# Altium footprint library Inductor_SMD.PcbLib: 259 footprints (part 10 of 17)
Each footprint in its own frame and in the unit in brackets; x right, y up, seen from the top. Pads: shape width x height; smd on the part's side, far side on the other; paste and mask are expansions set on the pad; w line width, h text height; cw(c..) or ccw(c..) is an arc to the next point about the centre after c.
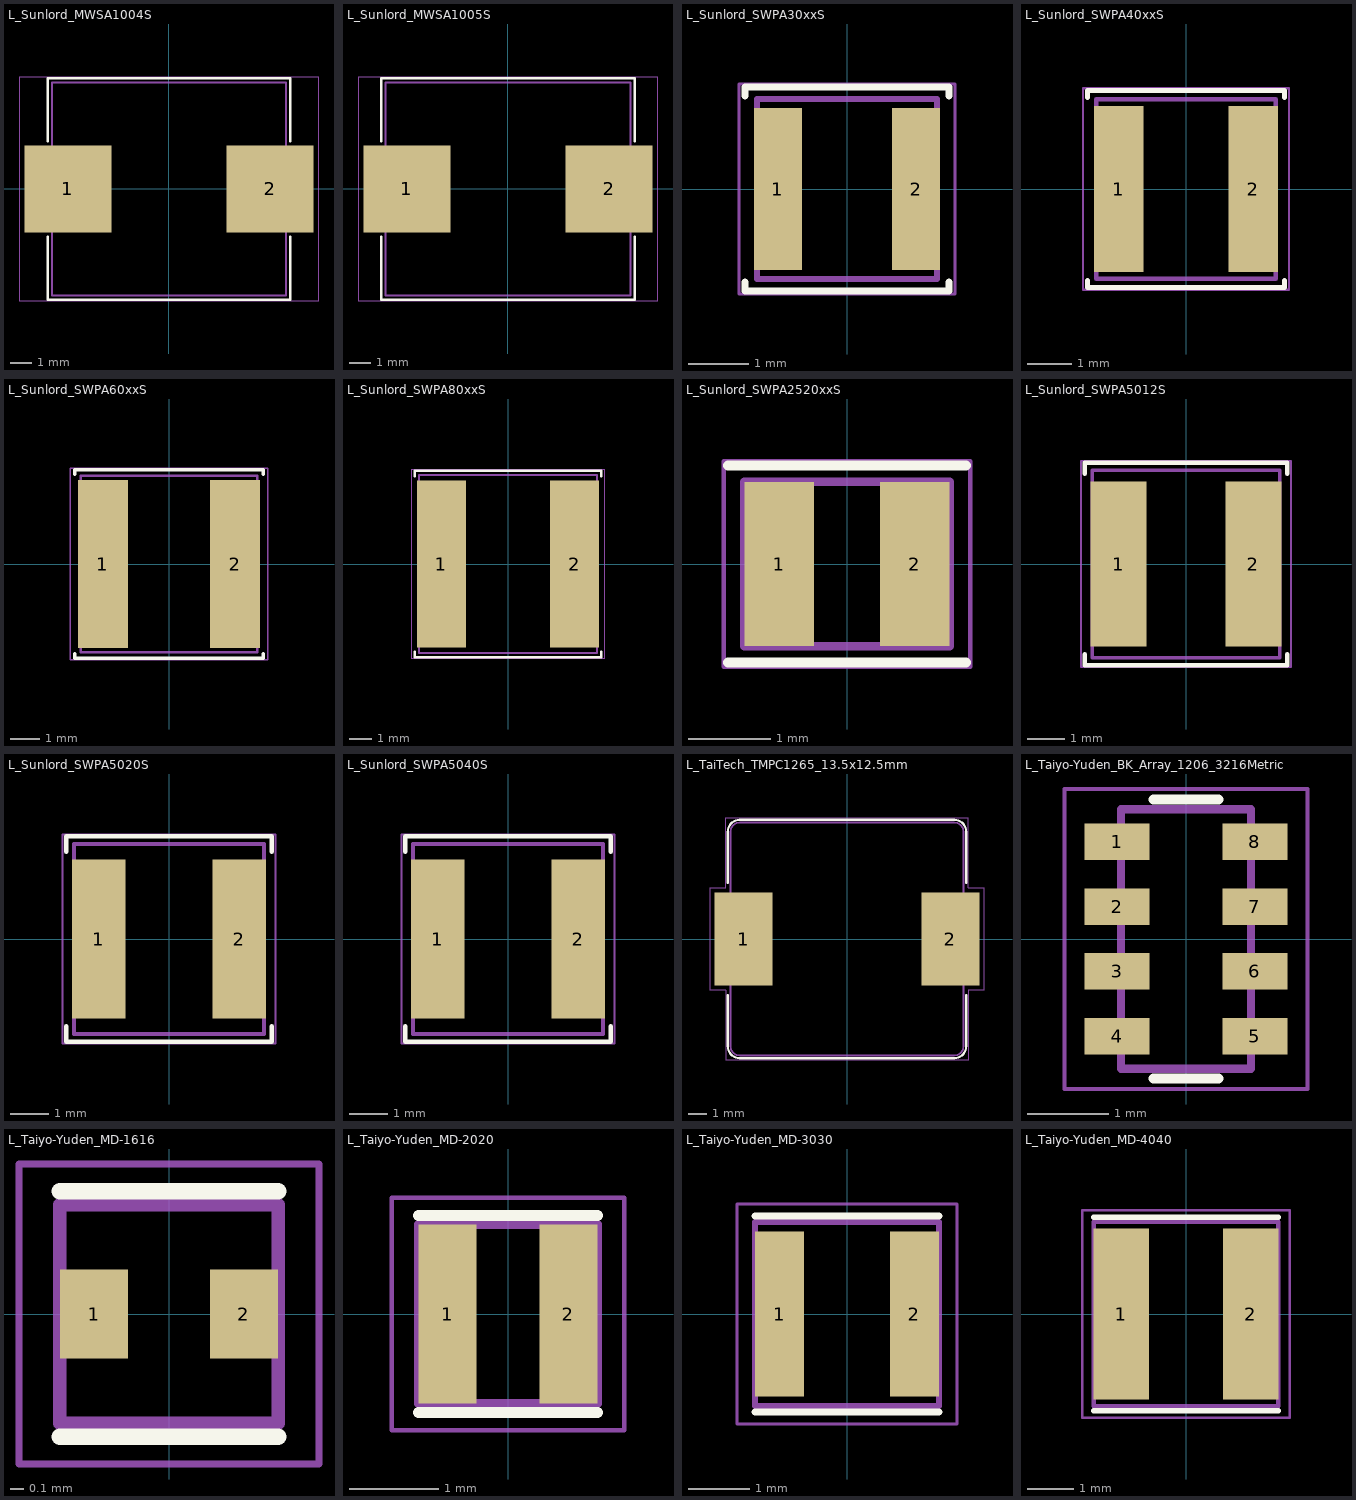
[diagram p9: the footprints below, top view; thin cyan lines are the x and y axes]

## L_Sunlord_MWSA1004S [mm]
pads (2):
  rect 4.1x4.1 smd: 1(-4.75,0) 2(4.75,0)
F.SilkS:
  lines w0.12: -5.7,-2.25 -5.7,-5.2 5.7,-5.2 5.7,-2.25 ; -5.7,2.25 -5.7,5.2 5.7,5.2 5.7,2.25
F.CrtYd:
  lines w0.05: -7.05,-5.25 -7.05,5.25 7.05,5.25 7.05,-5.25 -7.05,-5.25
F.Fab:
  lines w0.1: -5.5,-5 -5.5,5 5.5,5 5.5,-5 -5.5,-5
  text "'.Designator'" at -4.047,-0.84 h1

## L_Sunlord_MWSA1005S [mm]
pads (2):
  rect 4.1x4.1 smd: 1(-4.75,0) 2(4.75,0)
F.SilkS:
  lines w0.12: -5.95,-2.25 -5.95,-5.2 5.95,-5.2 5.95,-2.25 ; -5.95,2.25 -5.95,5.2 5.95,5.2 5.95,2.25
F.CrtYd:
  lines w0.05: -7.05,-5.25 -7.05,5.25 7.05,5.25 7.05,-5.25 -7.05,-5.25
F.Fab:
  lines w0.1: -5.75,-5 -5.75,5 5.75,5 5.75,-5 -5.75,-5
  text "'.Designator'" at -4.047,-0.84 h1

## L_Sunlord_SWPA30xxS [mm]
pads (2):
  rect 0.8x2.7 smd: 1(-1.15,0) 2(1.15,0)
F.SilkS:
  lines w0.12: -1.7,-1.55 -1.7,-1.7 1.7,-1.7 1.7,-1.55 ; -1.7,1.55 -1.7,1.7 1.7,1.7 1.7,1.55
F.CrtYd:
  lines w0.05: -1.8,-1.75 -1.8,1.75 1.8,1.75 1.8,-1.75 -1.8,-1.75
F.Fab:
  lines w0.1: -1.5,-1.5 -1.5,1.5 1.5,1.5 1.5,-1.5 -1.5,-1.5
  text "'.Designator'" at -2.023,-0.42 h0.5

## L_Sunlord_SWPA40xxS [mm]
pads (2):
  rect 1.1x3.7 smd: 1(-1.5,0) 2(1.5,0)
F.SilkS:
  lines w0.12: -2.2,-2.05 -2.2,-2.2 2.2,-2.2 2.2,-2.05 ; -2.2,2.05 -2.2,2.2 2.2,2.2 2.2,2.05
F.CrtYd:
  lines w0.05: -2.3,-2.25 -2.3,2.25 2.3,2.25 2.3,-2.25 -2.3,-2.25
F.Fab:
  lines w0.1: -2,-2 -2,2 2,2 2,-2 -2,-2
  text "'.Designator'" at -2.023,-0.42 h0.5

## L_Sunlord_SWPA60xxS [mm]
pads (2):
  rect 1.7x5.7 smd: 1(-2.25,0) 2(2.25,0)
F.SilkS:
  lines w0.12: -3.2,-3.05 -3.2,-3.2 3.2,-3.2 3.2,-3.05 ; -3.2,3.05 -3.2,3.2 3.2,3.2 3.2,3.05
F.CrtYd:
  lines w0.05: -3.35,-3.25 -3.35,3.25 3.35,3.25 3.35,-3.25 -3.35,-3.25
F.Fab:
  lines w0.1: -3,-3 -3,3 3,3 3,-3 -3,-3
  text "'.Designator'" at -2.293,-0.476 h0.57

## L_Sunlord_SWPA80xxS [mm]
pads (2):
  rect 2.2x7.5 smd: 1(-3,0) 2(3,0)
F.SilkS:
  lines w0.12: -4.2,-3.95 -4.2,-4.2 4.2,-4.2 4.2,-3.95 ; -4.2,3.95 -4.2,4.2 4.2,4.2 4.2,3.95
F.CrtYd:
  lines w0.05: -4.35,-4.25 -4.35,4.25 4.35,4.25 4.35,-4.25 -4.35,-4.25
F.Fab:
  lines w0.1: -4,-4 -4,4 4,4 4,-4 -4,-4
  text "'.Designator'" at -2.968,-0.616 h0.73

## L_Sunlord_SWPA2520xxS [mm]
pads (2):
  rect 0.85x2 smd: 1(-0.825,0) 2(0.825,0)
F.SilkS:
  lines w0.12: -1.45,-1.2 1.45,-1.2 ; -1.45,1.2 1.45,1.2
F.CrtYd:
  lines w0.05: -1.5,-1.25 -1.5,1.25 1.5,1.25 1.5,-1.25 -1.5,-1.25
F.Fab:
  lines w0.1: -1.25,-1 -1.25,1 1.25,1 1.25,-1 -1.25,-1
  text "'.Designator'" at 0.42,-2.023 h0.5

## L_Sunlord_SWPA5012S [mm]
pads (2):
  rect 1.5x4.4 smd: 1(-1.8,0) 2(1.8,0)
F.SilkS:
  lines w0.12: -2.7,-2.4 -2.7,-2.7 2.7,-2.7 2.7,-2.4 ; -2.7,2.4 -2.7,2.7 2.7,2.7 2.7,2.4
F.CrtYd:
  lines w0.05: -2.8,-2.75 -2.8,2.75 2.8,2.75 2.8,-2.75 -2.8,-2.75
F.Fab:
  lines w0.1: -2.5,-2.5 -2.5,2.5 2.5,2.5 2.5,-2.5 -2.5,-2.5
  text "'.Designator'" at -2.023,-0.42 h0.5

## L_Sunlord_SWPA5020S [mm]
pads (2):
  rect 1.4x4.2 smd: 1(-1.85,0) 2(1.85,0)
F.SilkS:
  lines w0.12: -2.7,-2.3 -2.7,-2.7 2.7,-2.7 2.7,-2.3 ; -2.7,2.3 -2.7,2.7 2.7,2.7 2.7,2.3
F.CrtYd:
  lines w0.05: -2.8,-2.75 -2.8,2.75 2.8,2.75 2.8,-2.75 -2.8,-2.75
F.Fab:
  lines w0.1: -2.5,-2.5 -2.5,2.5 2.5,2.5 2.5,-2.5 -2.5,-2.5
  text "'.Designator'" at -2.023,-0.42 h0.5

## L_Sunlord_SWPA5040S [mm]
pads (2):
  rect 1.4x4.2 smd: 1(-1.85,0) 2(1.85,0)
F.SilkS:
  lines w0.12: -2.7,-2.3 -2.7,-2.7 2.7,-2.7 2.7,-2.3 ; -2.7,2.3 -2.7,2.7 2.7,2.7 2.7,2.3
F.CrtYd:
  lines w0.05: -2.8,-2.75 -2.8,2.75 2.8,2.75 2.8,-2.75 -2.8,-2.75
F.Fab:
  lines w0.1: -2.5,-2.5 -2.5,2.5 2.5,2.5 2.5,-2.5 -2.5,-2.5
  text "'.Designator'" at -2.023,-0.42 h0.5

## L_TaiTech_TMPC1265_13.5x12.5mm [mm]
pads (2):
  rect 3.1x5 smd: 1(-5.55,0) 2(5.55,0)
F.SilkS:
  lines w0.12: -6.4,-3 -6.4,-5.75 ccw(c-5.75,-5.75) -5.75,-6.4 5.75,-6.4 ccw(c5.75,-5.75) 6.4,-5.75 6.4,-3 ; -6.4,3 -6.4,5.75 cw(c-5.75,5.75) -5.75,6.4 5.75,6.4 cw(c5.75,5.75) 6.4,5.75 6.4,3
F.CrtYd:
  lines w0.05: -7.35,-2.75 -7.35,2.75 -6.5,2.75 -6.5,6.5 6.5,6.5 6.5,2.75 7.35,2.75 7.35,-2.75 6.5,-2.75 6.5,-6.5 -6.5,-6.5 -6.5,-2.75 -7.35,-2.75
F.Fab:
  lines w0.1: -6.75,-2.35 -6.75,2.35 -6.25,2.35 -6.25,5.75 cw(c-5.75,5.75) -5.75,6.25 5.75,6.25 cw(c5.75,5.75) 6.25,5.75 6.25,2.35 6.75,2.35 6.75,-2.35 6.25,-2.35 6.25,-5.75 cw(c5.75,-5.75) 5.75,-6.25 -5.75,-6.25 cw(c-5.75,-5.75) -6.25,-5.75 -6.25,-2.35 -6.75,-2.35
  text "'.Designator'" at -4.047,-0.84 h1

## L_Taiyo-Yuden_BK_Array_1206_3216Metric [mm]
pads (8):
  rect 0.8x0.45 smd: 1(-0.85,1.2) 2(-0.85,0.4) 3(-0.85,-0.4) 4(-0.85,-1.2) 5(0.85,-1.2) 6(0.85,-0.4) 7(0.85,0.4) 8(0.85,1.2)
F.SilkS:
  lines w0.12: -0.4,-1.72 0.4,-1.72 ; -0.4,1.72 0.4,1.72
F.CrtYd:
  lines w0.05: -1.5,-1.85 -1.5,1.85 1.5,1.85 1.5,-1.85 -1.5,-1.85
F.Fab:
  lines w0.1: -0.8,-1.6 0.8,-1.6 0.8,1.6 -0.8,1.6 -0.8,-1.6
  text "'.Designator'" at 0.672,-3.237 h0.8

## L_Taiyo-Yuden_MD-1616 [mm]
pads (2):
  rect 0.5x0.65 smd: 1(-0.55,0) 2(0.55,0)
F.SilkS:
  lines w0.12: -0.8,-0.9 0.8,-0.9 ; -0.8,0.9 0.8,0.9
F.CrtYd:
  lines w0.05: -1.1,-1.1 1.1,-1.1 1.1,1.1 -1.1,1.1 -1.1,-1.1
F.Fab:
  lines w0.1: -0.8,-0.8 -0.8,0.8 0.8,0.8 0.8,-0.8 -0.8,-0.8
  text "'.Designator'" at -1.219,-0.257 h0.3

## L_Taiyo-Yuden_MD-2020 [mm]
pads (2):
  rect 0.65x2 smd: 1(-0.675,0) 2(0.675,0)
F.SilkS:
  lines w0.12: -1,-1.1 1,-1.1 ; -1,1.1 1,1.1
F.CrtYd:
  lines w0.05: -1.3,-1.3 1.3,-1.3 1.3,1.3 -1.3,1.3 -1.3,-1.3
F.Fab:
  lines w0.1: -1,-1 -1,1 1,1 1,-1 -1,-1
  text "'.Designator'" at -2.023,-0.42 h0.5

## L_Taiyo-Yuden_MD-3030 [mm]
pads (2):
  rect 0.8x2.7 smd: 1(-1.1,0) 2(1.1,0)
F.SilkS:
  lines w0.12: -1.5,-1.6 1.5,-1.6 ; -1.5,1.6 1.5,1.6
F.CrtYd:
  lines w0.05: -1.8,-1.8 -1.8,1.8 1.8,1.8 1.8,-1.8 -1.8,-1.8
F.Fab:
  lines w0.1: -1.5,-1.5 1.5,-1.5 1.5,1.5 -1.5,1.5 -1.5,-1.5
  text "'.Designator'" at -2.833,-0.588 h0.7

## L_Taiyo-Yuden_MD-4040 [mm]
pads (2):
  rect 1.2x3.7 smd: 1(-1.4,0) 2(1.4,0)
F.SilkS:
  lines w0.12: -2,-2.1 2,-2.1 ; -2,2.1 2,2.1
F.CrtYd:
  lines w0.05: -2.25,-2.25 -2.25,2.25 2.25,2.25 2.25,-2.25 -2.25,-2.25
F.Fab:
  lines w0.1: -2,-2 -2,2 2,2 2,-2 -2,-2
  text "'.Designator'" at -4.047,-0.84 h1